# Altium schematic symbol library Transistor.SchLib: 5 symbols
Pins are listed as number, name and electrical type; pins without a type are passive.

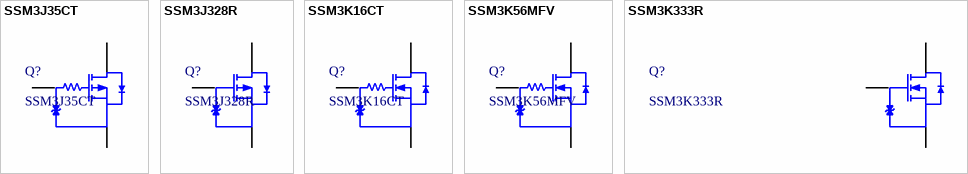
[diagram p0: symbols SSM3J35CT to SSM3K333R]

## SSM3J35CT
designator Q?
20V 100mA 100mW 8Ω@4V,50mA P Channel CST-3  MOSFETs ROHS; Package: SOT-883-3; SuppliersPartNumber: C2880447
footprint SOT-883-3
pins: 1 G, 2 S, 3 D

## SSM3J328R
designator Q?
20V 6A 29.8mΩ@4.5V,3A 1W P Channel SOT-23(TO-236)  MOSFETs ROHS; ComponentLink1Description: 供应商链接; ComponentLink1URL: http://www.szlcsc.com/product/details_15801.html; Package: SOT-23F; Supplier: LC; SuppliersPartNumber: C15127
footprint SOT-23-3L
pins: 1 G, 2 S, 3 D

## SSM3K16CT
designator Q?
N-Channel 20 V 100mA (Ta) 100mW (Ta) Surface Mount CST3 / Ron = 15 Ω (max) (@VGS = 1.5 V); Package: SOT-883-3; SuppliersPartNumber: C2880447; Drain Current: 100mA
footprint SOT-883-3
pins: 1 G, 2 S, 3 D

## SSM3K56MFV
designator Q?
20V 800mA 150mW 235mΩ@4.5V,800mA N Channel SOT-723  MOSFETs ROHS / Ron = 480 mΩ (max) (@VGS = 1.8 V) 200 mA; Drain Current: 100mA; Package: SOT-883-3; SuppliersPartNumber: C2880447
footprint SOT-723-3
pins: 1 G, 2 S, 3 D

## SSM3K333R
designator Q?
30V 6A 28mΩ@10V,5A 1W N Channel SOT-23(TO-236)  MOSFETs ROHS; ComponentLink1Description: 供应商链接; ComponentLink1URL: http://www.szlcsc.com/product/details_21629.html; Package: SOT-23; Supplier: LC; SuppliersPartNumber: C20917
footprint SOT-23-3L
pins: 1 G, 2 S, 3 D